# Altium integrated library Ai-Thinker.IntLib: 2 symbols
Pins are listed as number, name and electrical type; pins without a type are passive.

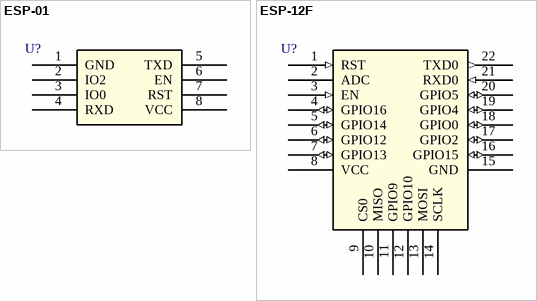
[diagram p0: symbols ESP-01 to ESP-12F]

## ESP-01
designator U?
ESP8266, 32-bit CPU, 160MHz Clock, Integrated Wi-Fi MAC/BB/RF/PA/LNA, 802.11b/g/n Wi-Fi SOC Module; Manufacturer: Ai-Thinker; Manufacturer_Part_Number: ESP-01; Built_By: Gordon Mak
footprint 24X14X11_8P
pins: 1 GND, 2 IO2, 3 IO0, 4 RXD, 5 TXD, 6 EN, 7 RST, 8 VCC

## ESP-12F
designator U?
ESP8266, 32-bit micro MCU, 80 MHz and 160 MHz Clock, Integrates Wi-Fi MAC/BB/RF/PA/LNA, IEEE802.11 b/g/n, Wi-Fi Module; Manufacturer: Ai-Thinker; Manufacturer_Part_Number: ESP-12F; Built_By: Gordon Mak
footprint 16X24X3_22P
pins: 1 RST (in), 2 ADC, 3 EN (in), 4 GPIO16 (io), 5 GPIO14 (io), 6 GPIO12 (io), 7 GPIO13 (io), 8 VCC (power), 9 CS0, 10 MISO, 11 GPIO9, 12 GPIO10, 13 MOSI, 14 SCLK, 15 GND, 16 GPIO15 (io), 17 GPIO2 (io), 18 GPIO0 (io), 19 GPIO4 (io), 20 GPIO5 (io), 21 RXD0 (in), 22 TXD0 (out)